# Altium footprint library W25Q128JVSIQ.PcbLib: 1 footprints
Each footprint in its own frame and in the unit in brackets; x right, y up, seen from the top. Pads: shape width x height; smd on the part's side, far side on the other; paste and mask are expansions set on the pad; w line width, h text height; cw(c..) or ccw(c..) is an arc to the next point about the centre after c.
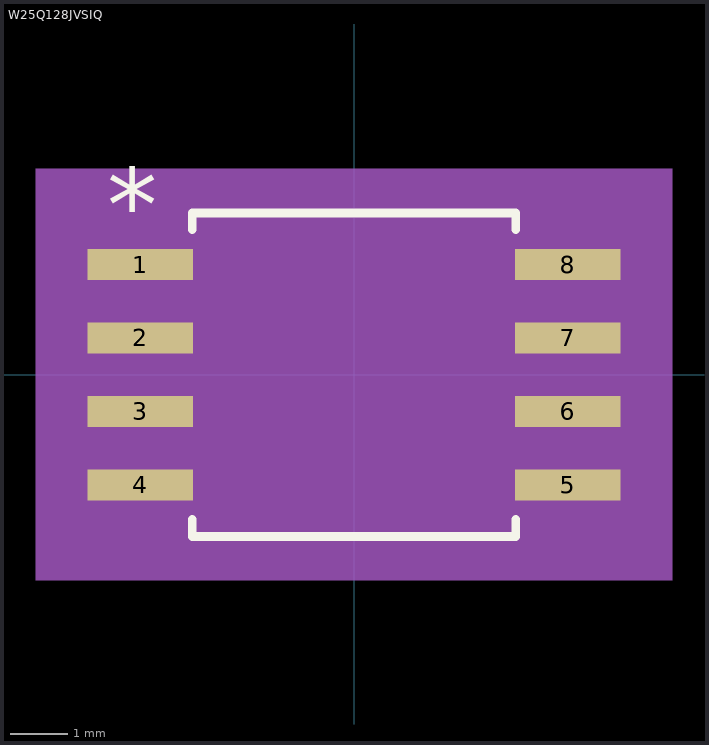
[diagram p0: the footprint, top view; thin cyan lines are the x and y axes]

## W25Q128JVSIQ [mil] "W25Q128JVSIQ"
pads (8):
  rect 72x21 smd paste+0 mask+0: 1(-145.5,75) 2(-145.5,25) 3(-145.5,-25) 4(-145.5,-75) 5(145.5,-75) 6(145.5,-25) 7(145.5,25) 8(145.5,75)
Top Overlay:
  lines w6: -110,-98.6 -110,-110 110,-110 110,-98.6 ; -110,98.6 -110,110 110,110 110,98.6
  text "*" at -168,91 h50
Mechanical 5:
  region: 216.5,-140 -216.5,-140 -216.5,140 216.5,140
Mechanical 13:
  lines w0: -12,105 ccw(c0,105) 12,105
  lines w1: -159.5,-84.5 -159.5,-65.5 -105,-65.5 -105,-84.5 -159.5,-84.5 ; -159.5,-34.5 -159.5,-15.5 -105,-15.5 -105,-34.5 -159.5,-34.5 ; -159.5,15.5 -159.5,34.5 -105,34.5 -105,15.5 -159.5,15.5 ; -159.5,65.5 -159.5,84.5 -105,84.5 -105,65.5 -159.5,65.5 ; -105,-105 105,-105 105,105 -105,105 -105,-105 ; 105,-84.5 105,-65.5 159.5,-65.5 159.5,-84.5 105,-84.5 ; 105,-34.5 105,-15.5 159.5,-15.5 159.5,-34.5 105,-34.5 ; 105,15.5 105,34.5 159.5,34.5 159.5,15.5 105,15.5 ; 105,65.5 105,84.5 159.5,84.5 159.5,65.5 105,65.5
  text "*" at -102.5,52 h50
Mechanical 15:
  region: -125,-105.5 -201.5,-105.5 -201.5,105.5 -125,105.5 -125,125 125,125 125,105.5 201.5,105.5 201.5,-105.5 125,-105.5 125,-125 -125,-125
  lines w6: -201.5,-105.5 -201.5,105.5 -125,105.5 -125,125 125,125 125,105.5 201.5,105.5 201.5,-105.5 125,-105.5 125,-125 -125,-125 -125,-105.5 -201.5,-105.5
3D body "SOIC_128JVSIQ_WIN.step": height 85.12, standoff 0, extent -159.49,-105 159.49,105